# Altium footprint library TEConectivity.PcbLib: 1 footprints
Each footprint in its own frame and in the unit in brackets; x right, y up, seen from the top. Pads: shape width x height; smd on the part's side, far side on the other; paste and mask are expansions set on the pad; w line width, h text height; cw(c..) or ccw(c..) is an arc to the next point about the centre after c.
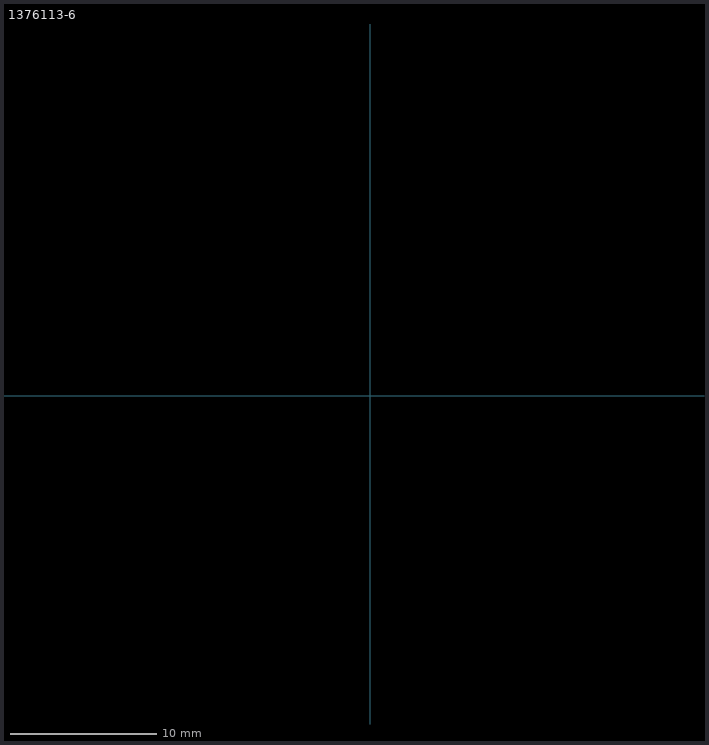
[diagram p0: the footprint, top view; thin cyan lines are the x and y axes]

## 1376113-6 [mm]
Multi-Layer:
  circle w0.254: c0,0 r0.8
  circle w0.254: c2.2,0 r0.8
  circle w0.254: c4.4,0 r0.8
  circle w0.254: c6.6,0 r0.8
  circle w0.254: c8.8,0 r0.8
  circle w0.254: c11,0 r0.8
  circle w0.254: c13.2,0 r0.8
  circle w0.254: c15.4,0 r0.8
  circle w0.254: c17.6,0 r0.8
  circle w0.254: c19.8,0 r0.8
  circle w0.254: c-2.2,0 r0.8
  circle w0.254: c-4.4,0 r0.8
  circle w0.254: c-6.6,0 r0.8
  circle w0.254: c-8.8,0 r0.8
  circle w0.254: c-11,0 r0.8
  circle w0.254: c-13.2,0 r0.8
  circle w0.254: c-15.4,0 r0.8
  circle w0.254: c-17.6,0 r0.8
  circle w0.254: c-19.8,0 r0.8
  circle w0.254: c-22,0 r0.8
  circle w0.254: c-22,3 r0.8
  circle w0.254: c-19.8,3 r0.8
  circle w0.254: c-17.6,3 r0.8
  circle w0.254: c-15.4,3 r0.8
  circle w0.254: c-13.2,3 r0.8
  circle w0.254: c-11,3 r0.8
  circle w0.254: c-8.8,3 r0.8
  circle w0.254: c-6.6,3 r0.8
  circle w0.254: c-4.4,3 r0.8
  circle w0.254: c-2.2,3 r0.8
  circle w0.254: c19.8,3 r0.8
  circle w0.254: c17.6,3 r0.8
  circle w0.254: c15.4,3 r0.8
  circle w0.254: c13.2,3 r0.8
  circle w0.254: c11,3 r0.8
  circle w0.254: c8.8,3 r0.8
  circle w0.254: c6.6,3 r0.8
  circle w0.254: c4.4,3 r0.8
  circle w0.254: c2.2,3 r0.8
  circle w0.254: c0,3 r0.8